# EAGLE library part SI7868ADP (library m-pad-2.1)
Vishay Siliconix Si7868ADP N-Channel 20-V (D-S) MOSFET FEATURES TrenchFET Power MOSFET Low rDS(on) PWM (Qgd and Rg) Optimized 100% Rg Tested RoHS Compliant APPLICATIONS Low Output Voltage Synchronous Rectifier Please send any comments to: messi@users.sourceforge.net
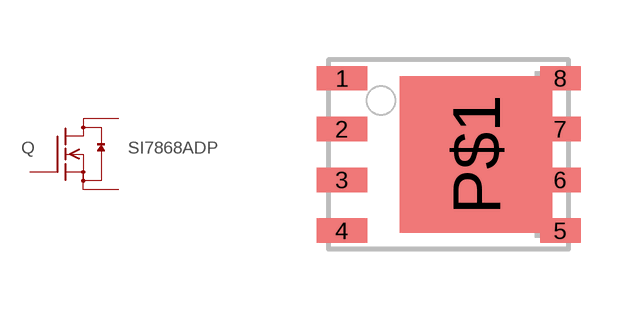
[diagram p167: symbol with the pads of SO-8-POWERPAK; footprint SO-8-POWERPAK]

Designator prefix Q

## SI7868ADP  [SO-8-POWERPAK]
1  S  pas
2  S  pas
3  S  pas
4  G  pas
5  D  pas
6  D  pas
7  D  pas
8  D  pas

## Footprint SO-8-POWERPAK (pad centres in mm)
Vishay's PowerPAK SO-8 Single for MOS-FETs
smd 1.27 x 0.61: 1 -2.667,2.54; 2 -2.667,1.27; 3 -2.667,0; 4 -2.667,-1.27
smd 1.016 x 0.61: 5 2.794,-1.27; 6 2.794,0; 7 2.794,1.27; 8 2.794,2.54
smd 3.81 x 3.912: P$1 0.686,0.635